# Altium schematic symbol library SCH - POWER - SWITCHMODE - TI TPS61322DBZ.SchLib: 1 symbol
Pins are listed as number, name and electrical type; pins without a type are passive.

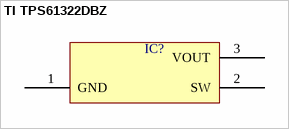
[diagram p0: symbol TI TPS61322DBZ]

## TI TPS61322DBZ
designator IC?  (value not drawn)
pins: 1 GND, 2 SW, 3 VOUT